# Altium schematic symbol library XTAL,8MHz,12pF,SMD.Schlib: 1 symbol
Pins are listed as number, name and electrical type; pins without a type are passive.

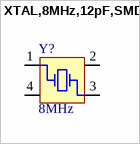
[diagram p0: symbol XTAL,8MHz,12pF,SMD]

## XTAL,8MHz,12pF,SMD
designator Y?, comment 8MHz
8 MHz ±20ppm Crystal 12pF 400 Ohms 4-SMD, No Lead
pins: 1 OSC1, 2 GND, 3 OSC2, 4 GND